# Altium schematic symbol library RC0402FR-071K5L.SchLib: 1 symbol
Pins are listed as number, name and electrical type; pins without a type are passive.

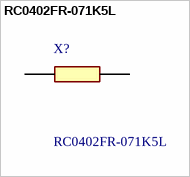
[diagram p0: symbol RC0402FR-071K5L]

## RC0402FR-071K5L
designator X?
Resistor Thick film 0402 1% 1K5; Manufacturer_Name: Yageo Group; Geometry.Height: 0.4mm; Mouser Part Number: 603-RC0402FR-071K5L; Mouser Price/Stock: https://www.mouser.co.uk/ProductDetail/YAGEO/RC0402FR-071K5L?qs=V1yeUXFNrkl%252BoQJTjz%252B4zQ%3D%3D; Manufacturer_Part_Number: RC0402FR-071K5L; Datasheet Link: https://www.yageo.com/upload/media/product/productsearch/datasheet/rchip/PYu-RC_Group_51_RoHS_L_12.pdf
footprint RESC1005X40N
pins: 1, 2